# Altium footprint library bici_components_abby.PcbLib: 48 footprints (part 1 of 3)
Each footprint in its own frame and in the unit in brackets; x right, y up, seen from the top. Pads: shape width x height; smd on the part's side, far side on the other; paste and mask are expansions set on the pad; w line width, h text height; cw(c..) or ccw(c..) is an arc to the next point about the centre after c.
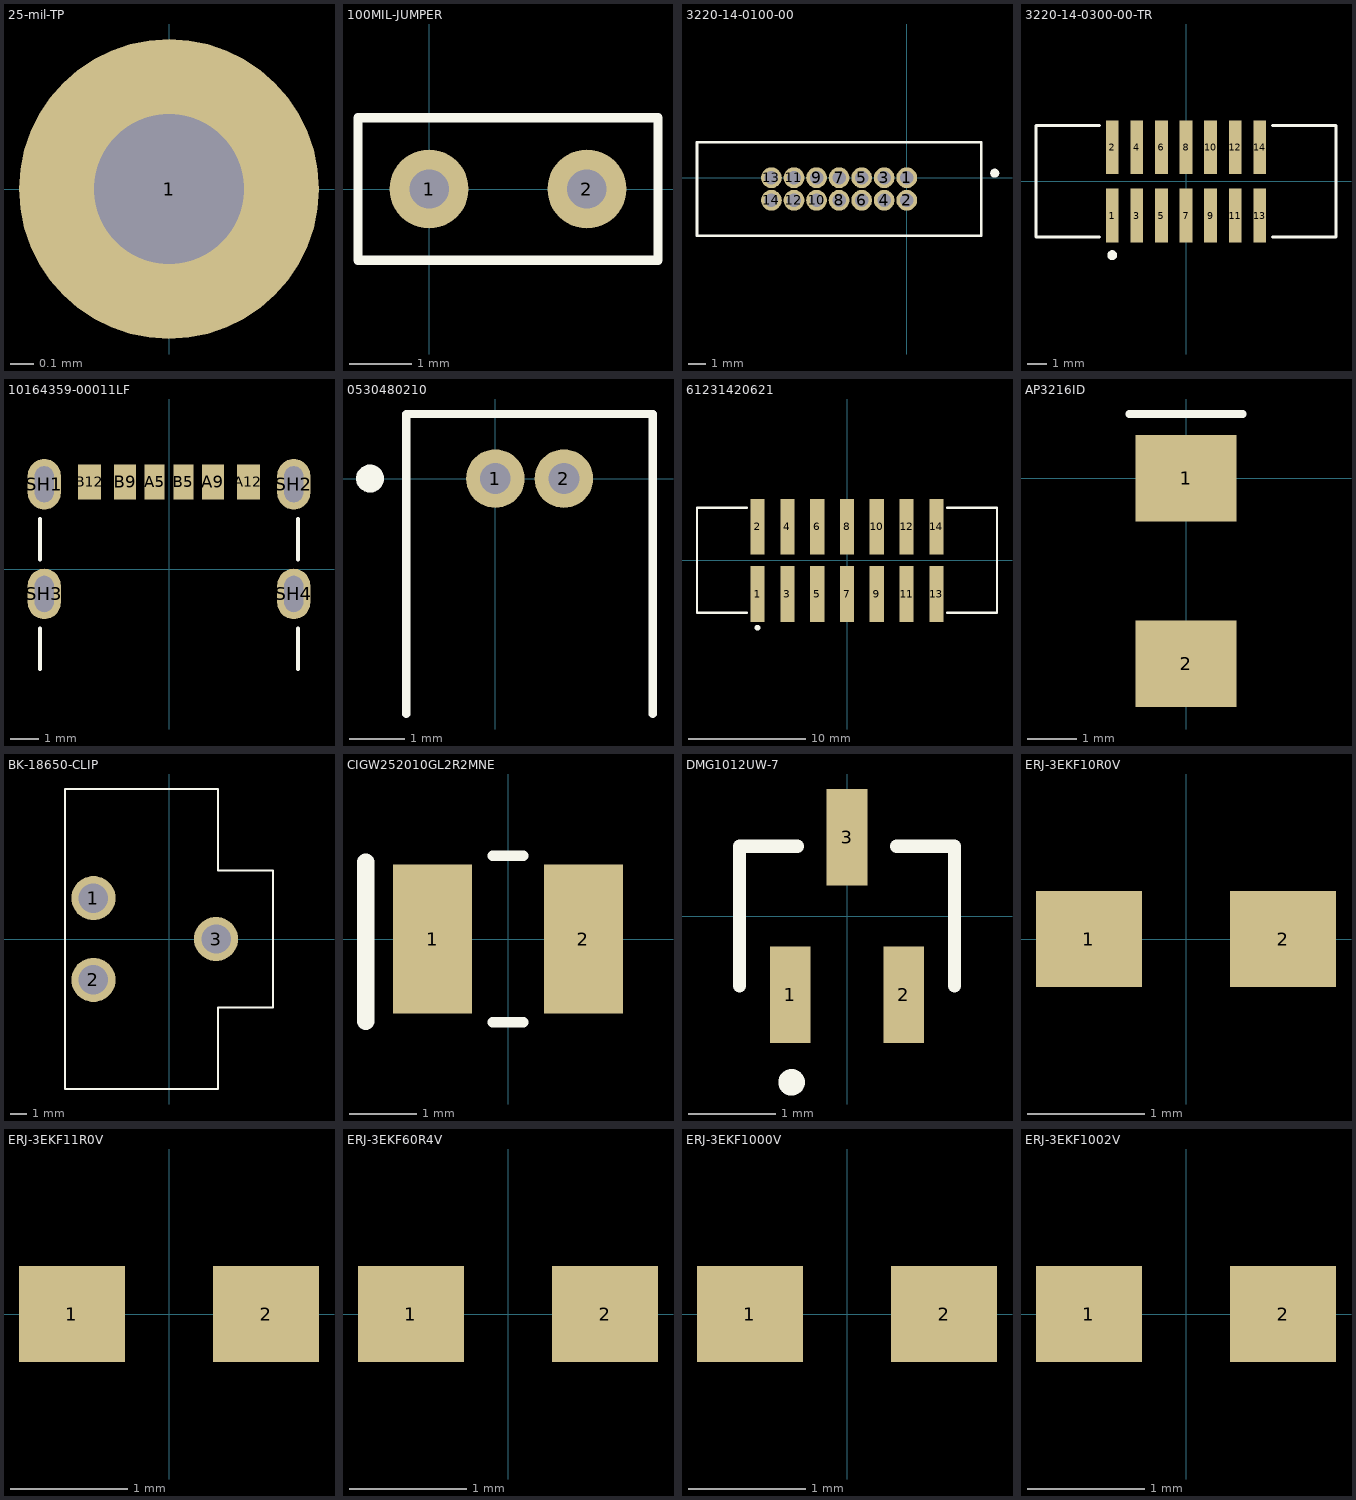
[diagram p0: the footprints below, top view; thin cyan lines are the x and y axes]

## 25-mil-TP [mil]
pads (1):
  round 50 hole 25: 1(0,0)

## 100MIL-JUMPER [mil]
pads (2):
  round 50 hole 25: 1(0,0) 2(100,0)
Top Overlay:
  lines w6: -45,-45 145,-45 145,45 -45,45 -45,-45

## 3220-14-0100-00 [mil]
pads (14):
  round 46 / inner round 60 / far side round 46 hole 30 paste-99999 mask+4: 1(0,0) 2(0,-50) 3(-50,0) 4(-50,-50) 5(-100,0) 6(-100,-50) 7(-150,0) 8(-150,-50) 9(-200,0) 10(-200,-50) 11(-250,0) 12(-250,-50) 13(-300,0) 14(-300,-50)
Top Overlay:
  circle w10: c195,10 r5
  lines w6: -465,-128.5 -465,78.5 165,78.5 165,-128.5 -465,-128.5
3D body "3220-14-0100-00.STEP": height 222.6, standoff -72.68, extent -448.03,-130.39 150,70.39

## 3220-14-0300-00-TR [mil]
pads (14):
  rect 26x109 smd paste+0 mask+4: 1(-150,-69.49) 2(-150,69.49) 3(-100,-69.49) 4(-100,69.49) 5(-50,-69.49) 6(-50,69.49) 7(0,-69.49) 8(0,69.49) 9(50,-69.49) 10(50,69.49) 11(100,-69.49) 12(100,69.49) 13(150,-69.49) 14(150,69.49)
Top Overlay:
  circle w10: c-150,-150 r5
  lines w6: -176.1,-113.5 -305,-113.5 -305,113.5 -176.1,113.5 ; 176.1,-113.5 305,-113.5 305,113.5 176.1,113.5

## 10164359-00011LF [mm]
height 3.26
pads (10):
  rect 0.7x1.2 smd: A5(-0.5,3.03) B5(0.5,3.03)
  rect 0.76x1.2 smd: A9(1.52,3.03) B9(-1.52,3.03)
  rect 0.8x1.2 smd: A12(2.75,3.03) B12(-2.75,3.03)
  oval 1.15x1.75 hole 0.65 slot 1.25 at 90 deg: SH1(-4.32,2.95) SH2(4.32,2.95) SH3(-4.32,-0.85) SH4(4.32,-0.85)
Top Overlay:
  lines w0.127: -4.47,-3.45 -4.47,-2.045 ; -4.47,0.345 -4.47,1.755 ; 4.47,-3.45 4.47,-2.045 ; 4.47,0.345 4.47,1.755
3D body "10164359-00011LF--3DModel-STEP-269445.STEP": height 3.26, standoff -0.9, extent -4.47,-3.45 4.47,3.45

## 0530480210 [mil]
pads (2):
  round 42 / inner round 60 / far side round 42 hole 22 paste-99999 mask+4: 1(0,0) 2(49.21,0)
Top Overlay:
  circle w10: c-90,0 r5
  lines w6: -64,-169 -64,46 ; -63.89,46.34 113.11,46.34 ; 113,-169 113,46
3D body "530480210.stp": height 145.98, standoff -82.36, extent -58.66,-175.63 108.66,40.91

## 61231420621 [mm]
height 9.1
pads (14):
  rect 1.2x4.75 smd: 1(-7.62,-2.875) 2(-7.62,2.875) 3(-5.08,-2.875) 4(-5.08,2.875) 5(-2.54,-2.875) 6(-2.54,2.875) 7(0,-2.875) 8(0,2.875) 9(2.54,-2.875) 10(2.54,2.875) 11(5.08,-2.875) 12(5.08,2.875) 13(7.62,-2.875) 14(7.62,2.875)
Top Overlay:
  circle w0.25: c-7.64,-5.75 r0.125
  lines w0.2: -8.54,-4.475 -12.8,-4.475 -12.8,4.475 -8.54,4.475 ; 8.54,-4.475 12.8,-4.475 12.8,4.475 8.54,4.475
3D body "61231420621.stp": height 11.35, standoff 0.03, extent -12.7,-4.75 12.7,4.88

## AP3216ID [mm]
pads (2):
  rect 2.032x1.75 smd paste+0 mask+0.102: 1(0,0) 2(0,-3.75)
Top Overlay:
  lines w0.152: -1.143,1.295 1.143,1.295

## BK-18650-CLIP [mm]
height 17.35
pads (3):
  round 2.745 hole 1.83: 1(-4.695,2.54) 2(-4.695,-2.54) 3(2.925,0)
Top Overlay:
  lines w0.127: -6.475,-9.32 3.055,-9.32 3.055,-4.265 6.475,-4.265 6.475,4.265 3.055,4.265 3.055,9.32 -6.475,9.32 -6.475,-9.32
3D body "step_temp.STEP": height 17.35, standoff -3.7, extent -6.475,-9.315 6.465,9.32

## CIGW252010GL2R2MNE [mil]
pads (2):
  rect 46x87 smd paste+0 mask+4: 1(-44,0) 2(44,0)
Top Overlay:
  lines w6: -8.89,-48.5 8.89,-48.5 ; -8.89,48.5 8.89,48.5
  lines w10: -83,-48 -83,45
3D body "RES_CIGW252010.step": height 39.02, standoff 0, extent -52.99,-43.5 52.99,43.5

## DMG1012UW-7 [mil]
pads (3):
  rect 18.36x43.56 smd paste+0 mask+4: 1(-25.59,-35.5) 2(25.59,-35.5) 3(0,35.5)
Top Overlay:
  circle w6: c-25,-75 r3
  lines w6: -48.5,-31.5 -48.5,31.5 -22.28,31.5 ; 22.28,31.5 48.5,31.5 48.5,-31.5
3D body "SOT_12UW-7_DIO.step": height 39.09, standoff 0, extent -43.5,-43.5 43.5,43.5

## ERJ-3EKF10R0V [mil]
pads (2):
  rect 35.4x32 smd paste+0 mask+4: 1(-32.5,0) 2(32.5,0)
3D body "RC0603N_PAN.step": height 27.99, standoff 0, extent -31.5,-15.75 31.5,15.75

## ERJ-3EKF11R0V [mil]
pads (2):
  rect 35.4x32 smd paste+0 mask+4: 1(-32.5,0) 2(32.5,0)
3D body "RC0603N_PAN.step": height 27.99, standoff 0, extent -31.5,-15.75 31.5,15.75

## ERJ-3EKF60R4V [mil]
pads (2):
  rect 35.4x32 smd paste+0 mask+4: 1(-32.5,0) 2(32.5,0)
3D body "RC0603N_PAN.step": height 27.99, standoff 0, extent -31.5,-15.75 31.5,15.75

## ERJ-3EKF1000V [mil]
pads (2):
  rect 35.4x32 smd paste+0 mask+4: 1(-32.5,0) 2(32.5,0)
3D body "RC0603N_PAN.step": height 27.99, standoff 0, extent -31.5,-15.75 31.5,15.75

## ERJ-3EKF1002V [mil]
pads (2):
  rect 35.4x32 smd paste+0 mask+4: 1(-32.5,0) 2(32.5,0)
3D body "RC0603N_PAN.step": height 27.99, standoff 0, extent -31.5,-15.75 31.5,15.75